# EAGLE library part RHDRV_10_? (library pinheader)
Female pinheader, 2.54 mm pitch
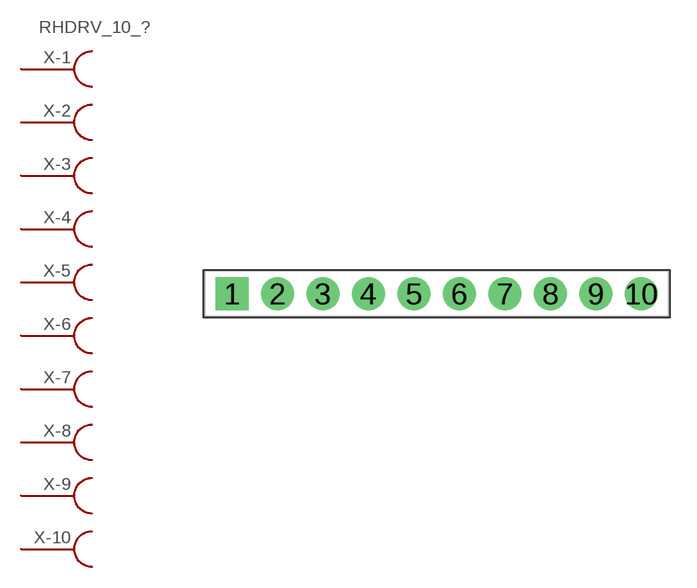
[diagram p0: symbol with the pads of RHDRV10W75P254_10X1_2590X254H850RN; footprint RHDRV10W75P254_10X1_2590X254H850RN]

Designator prefix X; gates -1=CONTACT_FEMALE -2=CONTACT_FEMALE -3=CONTACT_FEMALE -4=CONTACT_FEMALE -5=CONTACT_FEMALE -6=CONTACT_FEMALE -7=CONTACT_FEMALE -8=CONTACT_FEMALE -9=CONTACT_FEMALE -10=CONTACT_FEMALE G$1=VALUE

## RHDRV_10_THT (HEIGHT: 8.5; IDF_FAMILYNAME: RHDRV; IDF_PARTNUMBER: RHDRV10W75P254_10X1_2590X254H850)  [RHDRV10W75P254_10X1_2590X254H850RN]
1  -1:1
2  -2:1
3  -3:1
4  -4:1
5  -5:1
6  -6:1
7  -7:1
8  -8:1
9  -9:1
10  -10:1

## Footprint RHDRV10W75P254_10X1_2590X254H850RN (pad centres in mm)
Female, vertical header Nominal Material Condition Body (LxWxH): 25.90mm x 2.54mm x 8.50mm Lead (b): 0.75mm, Rectangular Pitch (d x e): 2.54mm x 2.54mm Number of Contacts (N):10 (10x1) IPC Component Parameters materialCondition | 1 | Nominal (Nominal Density) bodyType | 2 | Female contactShape | 0 | Rectangular ND | 10 NE | 1 indexScheme | 0 | Vertical first designatorScheme | 0 | Linear index, numeric designatorSymbols | ABCDEFGHIJKLMNOPQRSTUVWXYZ b | 0.750000 d | 2.540000 e | 2.540000 H | 8.500000 D | 25.900000 E | 2.540000 nameScheme | 0 | Standard manufacturerName | manufacturerPartNo | IPC Library Parameters fabTol | 0.050000 placeTol | 0.025000 padPlaceRoundOff | 0.010000 padSizeRoundOff | 0.010000 cornerRadius | 25.000000 cornerRadiusLimit | 0.250000 cornerRadiusRoundOff | 0.010000 thtPadSizeRoundOff | 0.010000 thtCourtyardExcess | 0.250000 thtCourtyardRound | 0.010000 thtHoleOverRoundLead | 0.200000 thtHoleOverRectangularLead | 0.150000 thtMinimumAnnularRing | 0.200000 thtPadToHoleRatio | 1.500000 courtyardLineWidth | 0.050000 legendLineWidth | 0.100000 | 0.120000 | 0.150000 legendClearance | 0.100000 | 0.120000 | 0.150000 legendFontHeight | 1.000000 | 1.200000 | 1.500000 legendFontRatio | 10.000000 legendRoundOff | 0.010000 componentFontHeight | 2.000000 componentLineWidth | 0.100000 componentRoundOff | 0.010000 Package generated by: tht_pinheader.ulp
drill 1.22 pad 1.83 square: 1 -11.43,0
drill 1.22 pad 1.83: 2 -8.89,0; 3 -6.35,0; 4 -3.81,0; 5 -1.27,0; 6 1.27,0; 7 3.81,0; 8 6.35,0; 9 8.89,0; 10 11.43,0